# Altium schematic symbol library IGBT-N.Schlib: 1 symbol
Pins are listed as number, name and electrical type; pins without a type are passive.

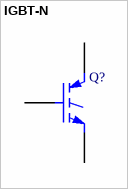
[diagram p0: symbol IGBT-N]

## IGBT-N
designator Q?
Insulated Gate Bipolar Transistor (N-Channel)
pins: 1 G, 2 C, 3 E